# Altium schematic symbol library GBA.SchLib: 50 symbols (part 2 of 2)
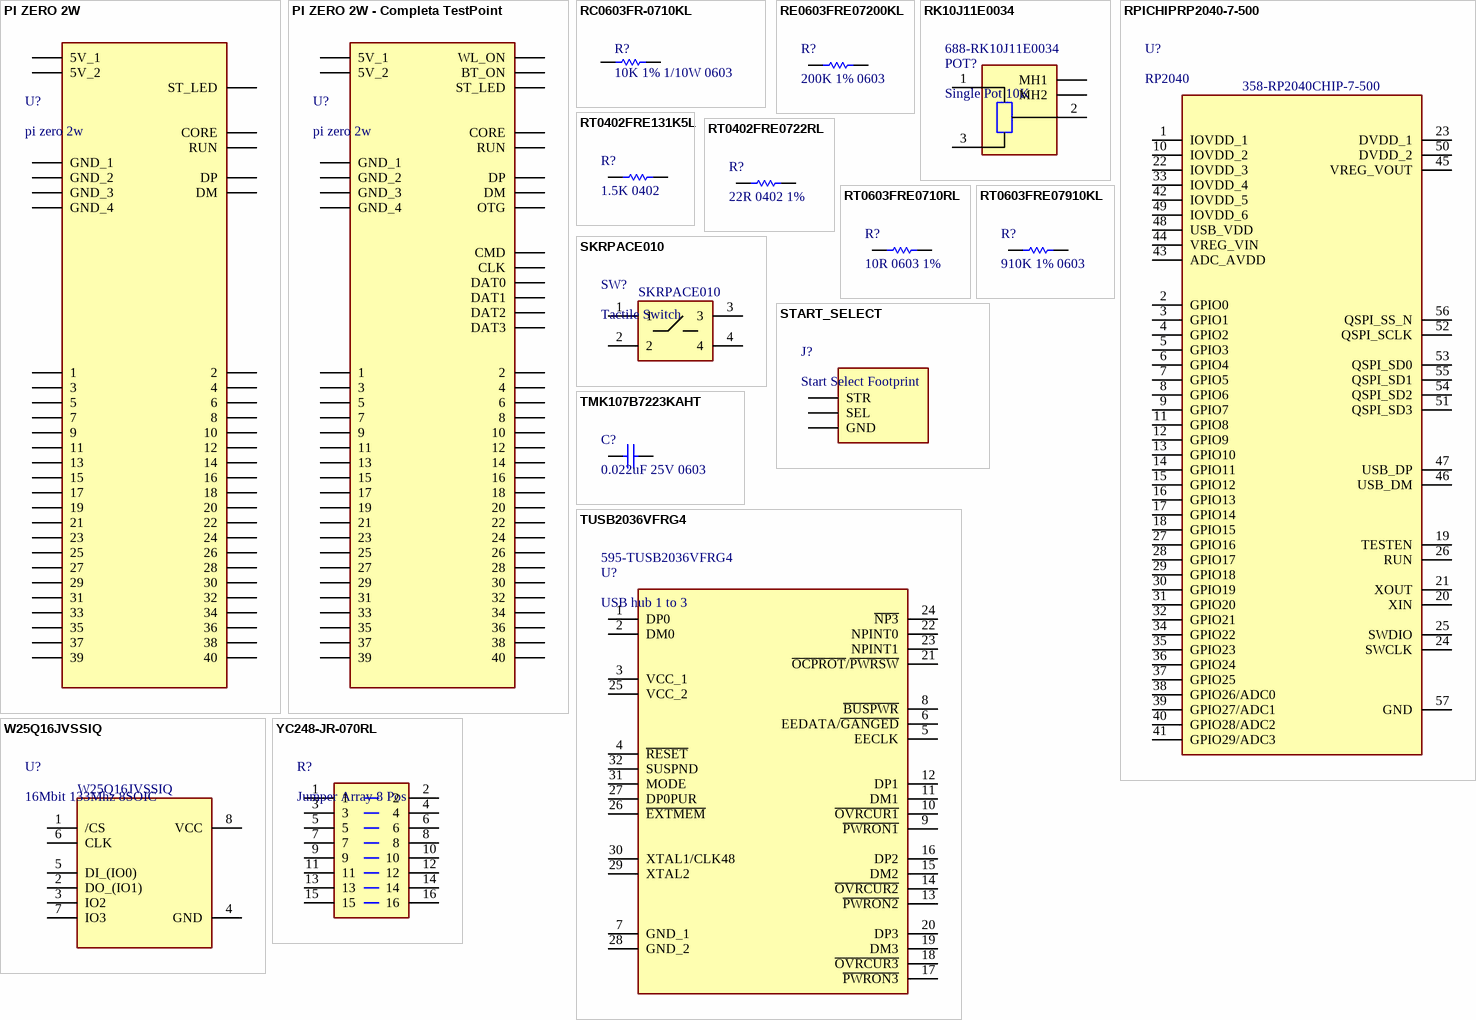
[diagram p2: symbols PI ZERO 2W to YC248-JR-070RL]

## SKRPACE010
designator SW?, comment Tactile Switch  Supplier Part Number 1: SKRPACE010
Tactile Switches 4.2x3.2x2.5mm 260gf; Manufacturer: Alps Electric; Operating Force: 2.55N; Throw Configuration: SPST; Max Voltage Rating (DC): 16V; Max Current Rating: 50mA; Electrical Life: 50000Cycles; Contact Resistance: 500mR; Actuator Length: 0.7mm; Supplier 1: Avnet; Manufacturer Part Number: SKRPACE010; RoHS: Yes; Category: Tactile Switches; Pricing 1: 4000=0,05263, 8000=0,05195, 16000=0,05063, 24000=0,04938, 40000=0,04819 (USD); Mount: Surface Mount; Case/Package: SMD/SMT; Color: Clear; Contact Plating: Silver; Min Operating Temperature: -20°C; Max Operating Temperature: 70°C; Termination: J-Bend; Packaging: Tape and Reel; Orientation: Straight; Current Rating: 50mA; Voltage Rating (DC): 16V; Package Quantity: 4000; Length: 4.6mm; Depth: 3.2mm; Radiation Hardening: No; Lead Free: Lead Free; ComponentLink1URL: https://datasheet.ciiva.com/16156/skrp-16156208.pdf?src-supplier=Onlinecomponents.com; ComponentLink1Description: https://datasheet.ciiva.com/16156/skrp-16156208.pdf?src-supplier=Onlinecomponents.com; ComponentLink2URL: https://datasheet.ciiva.com/18145/getdatasheetpartid-652528-18145947.pdf?src-supplier=Verical; ComponentLink2Description: https://datasheet.ciiva.com/18145/getdatasheetpartid-652528-18145947.pdf?src-supplier=Verical
footprint SKRPACE010
pins: 1, 2, 3, 4

## START_SELECT
designator J?, comment Start Select Footprint
Start Select
footprint START SELECT FOOTPRINT
pins: GND, SEL, STR

## TMK107B7223KAHT
designator C?, comment 0.022uF 25V 0603
Cap Ceramic 0.022uF 25V X7R 10% Pad SMD 0603 125C Automotive T/R; Manufacturer: Taiyo Yuden; Manufacturer Part Number: TMK107B7223KAHT; Capacitance: 22nF; Supplier 1: Mouser; RoHS: Yes; Category: Ceramic Capacitors; Stock 1: 9661; Pricing 1: 1=0,10000, 10=0,04700, 50=0,04700, 100=0,03500, 1000=0,02300, 10000=0,02000 (USD); Mount: Surface Mount; Case/Package: 0603; Case Code (Metric): 1608; Case Code (Imperial): 0603; Min Operating Temperature: -55°C; Max Operating Temperature: 125°C; Voltage Rating: 25V; Package Quantity: 4000; Packaging: Tape and Reel; Tolerance: 10%; Voltage Rating (DC): 25V; Dielectric: X7R; Termination: SMD/SMT; Length: 0.063inch; Width: 0.031inch; Height: 0.8mm; Thickness: 0.035inch; Ratings: AEC-Q200; Lead Free: Lead Free; Halogen Free: Halogen Free; RoHS Compliant: Yes; ComponentLink1URL: https://datasheet.ciiva.com/18697/mlcc01-hq-e-18697836.pdf?src-supplier=Digi-Key; ComponentLink1Description: https://datasheet.ciiva.com/18697/mlcc01-hq-e-18697836.pdf?src-supplier=Digi-Key; ComponentLink2URL: https://datasheet.ciiva.com/18697/mlcc01-hq-e-18697834.pdf?src-supplier=Digi-Key; ComponentLink2Description: https://datasheet.ciiva.com/18697/mlcc01-hq-e-18697834.pdf?src-supplier=Digi-Key; ComponentLink3URL: https://datasheet.ciiva.com/18697/mlcc01-hq-e-18697835.pdf?src-supplier=Digi-Key; ComponentLink3Description: https://datasheet.ciiva.com/18697/mlcc01-hq-e-18697835.pdf?src-supplier=Digi-Key; Supplier Part Number 1: 963-TMK107B7223KAHT
footprint C 0603/1608
pins: 1, 2

## TUSB2036VFRG4
designator U?, comment USB hub 1 to 3  Supplier Part Number 1: 595-TUSB2036VFRG4
2/3-port 12-Mbps USB full-speed hub with optional serial EEPROM interface 32-LQFP 0 to 70; Manufacturer: Texas Instruments; Manufacturer Part Number: TUSB2036VFRG4; Data Rate: 12Mbps; Operating Supply Voltage: 3.3V; Operating Supply Current: 40mA; Number of Ports: 3; Number of Transceivers: 4; Supplier 1: Mouser; RoHS: Yes; Category: Interface ICs; Stock 1: 2568; Pricing 1: 1=3,59000, 10=3,22000, 25=3,05000, 50=3,05000, 100=2,64000, 250=2,51000, 500=2,25000, 1000=1,96000, 10000=1,96000 (USD); Case/Package: LQFP; Number of Pins: 32; Weight: 0.006148oz; Min Operating Temperature: 0°C; Max Operating Temperature: 70°C; Packaging: Tape and Reel; Package Quantity: 1000; Series: -; Length: 7mm; Width: 7mm; Height: 1.4mm; Radiation Hardening: No; Lead Free: Lead Free; RoHS Compliant: Yes; ComponentLink1URL: https://datasheet.ciiva.com/4787/slls372e-121892-4787764.pdf?src-supplier=Mouser; ComponentLink1Description: https://datasheet.ciiva.com/4787/slls372e-121892-4787764.pdf?src-supplier=Mouser; ComponentLink2URL: https://datasheet.ciiva.com/1696/tusb2036-1696899.pdf?src-supplier=Digi-Key; ComponentLink2Description: https://datasheet.ciiva.com/1696/tusb2036-1696899.pdf?src-supplier=Digi-Key
footprint QFP80P900X900X160-32N (Footprint not found)
pins: 1 DP0, 2 DM0, 3 VCC_1, 4 ~{RESET}, 5 EECLK, 6 EEDATA/~{GANGED}, 7 GND_1, 8 ~{BUSPWR}, 9 ~{PWRON1}, 10 ~{OVRCUR1}, 11 DM1, 12 DP1, 13 ~{PWRON2}, 14 ~{OVRCUR2}, 15 DM2, 16 DP2, 17 ~{PWRON3}, 18 ~{OVRCUR3}, 19 DM3, 20 DP3, 21 ~{OCPROT}/~{PWRSW}, 22 NPINT0, 23 NPINT1, 24 ~{NP3}, 25 VCC_2, 26 ~{EXTMEM}, 27 DP0PUR, 28 GND_2, 29 XTAL2, 30 XTAL1/CLK48, 31 MODE, 32 SUSPND

## W25Q16JVSSIQ
designator U?, comment 16Mbit 133Mhz 8SOIC  Supplier Part Number 1: W25Q16JVSSIQ
ICFLASH16MBIT133MHZ8SOIC; Manufacturer: Winbond; Memory Type: Non-Volatile,FLASH; Memory Size: 16Mb; Supplier 1: Arrow Electronics; Manufacturer Part Number: W25Q16JVSSIQ; RoHS: Yes; Category: Flash; Stock 1: 7759; Pricing 1: 1=0,65330, 10=0,63190, 25=0,59860, 50=0,59510, 100=0,52980, 250=0,52330, 500=0,51540, 1000=0,50070, 5000=0,44520 (USD); Mount: Surface Mount; Case/Package: SOIC; Min Operating Temperature: -40°C; Max Operating Temperature: 85°C; Packaging: Rail/Tube; Frequency: 133MHz; RoHS Compliant: Yes; ComponentLink1URL: http://www.winbond.com/resource-files/w25q16jv%20spi%20revg%2003222018%20plus.pdf?src-supplier=Digi-Key; ComponentLink1Description: http://www.winbond.com/resource-files/w25q16jv%20spi%20revg%2003222018%20plus.pdf?src-supplier=Digi-Key
footprint SOIC127P790X216-8N
pins: 1 /CS, 2 DO_(IO1), 3 IO2, 4 GND, 5 DI_(IO0), 6 CLK, 7 IO3, 8 VCC

## YC248-JR-070RL
designator R?, comment Jumper Array 8 Pos
Res Thick Film Array 0 Ohm ISOL Epoxy 16-Pin 1606(8 X 0602) Convex SMD Automotive T/R; Manufacturer: Yageo; Manufacturer Part Number: YC248-JR-070RL; Number of Terminals/Pins: 16; Resistance: 0R; Number of Resistors: 8; Power Rating: 63mW; Voltage Rating: 50V; Tolerance: 5%; Circuit Type: Isolated; Power Per Element: 62.5mW; Temperature Coefficient: 200ppm/°C; Supplier 1: Mouser; RoHS: Yes; Category: Resistor Arrays; Stock 1: 17810; Pricing 1: 1=0,32000, 10=0,22600, 50=0,22600, 100=0,08900, 1000=0,04400, 5000=0,03300, 10000=0,03300 (USD); Mount: Surface Mount; Case/Package: 0616; Number of Pins: 16; Case Code (Metric): 1640; Case Code (Imperial): 0616; Min Operating Temperature: -55°C; Max Operating Temperature: 155°C; Number of Elements: 8; Package Quantity: 1; Packaging: Tape and Reel; Termination: Convex; Number of Contacts: 16; Number of Circuits: 8; Series: YC248; Resistance Tolerance: 5%; Technology: THICK FILM; Length: 0.157inch; Width: 0.063inch; Height: 0.022inch; Terminal Pitch: 0.5mm; Depth: 1.6mm; Radiation Hardening: No; REACH SVHC: Unknown; Military Standard: Not; Lead Free: Lead Free; RoHS Compliant: Yes; ComponentLink1URL: https://datasheet.ciiva.com/8018/443139-8018027.pdf?src-supplier=Element14; ComponentLink1Description: https://datasheet.ciiva.com/8018/443139-8018027.pdf?src-supplier=Element14; ComponentLink2URL: https://datasheet.ciiva.com/2689/pyu-r-marking-2-2689439.pdf?src-supplier=Digi-Key; ComponentLink2Description: https://datasheet.ciiva.com/2689/pyu-r-marking-2-2689439.pdf?src-supplier=Digi-Key; ComponentLink3URL: https://datasheet.ciiva.com/8320/pyu-yc248-51-rohs-l-2-8320251.pdf?src-supplier=Avnet; ComponentLink3Description: https://datasheet.ciiva.com/8320/pyu-yc248-51-rohs-l-2-8320251.pdf?src-supplier=Avnet; ComponentLink4URL: https://datasheet.ciiva.com/2689/pyu-r-marking-2-2689440.pdf?src-supplier=Digi-Key; ComponentLink4Description: https://datasheet.ciiva.com/2689/pyu-r-marking-2-2689440.pdf?src-supplier=Digi-Key; ComponentLink5URL: https://datasheet.ciiva.com/2689/pyu-r-marking-2-2689441.pdf?src-supplier=Digi-Key; ComponentLink5Description: https://datasheet.ciiva.com/2689/pyu-r-marking-2-2689441.pdf?src-supplier=Digi-Key; ComponentLink6URL: https://datasheet.ciiva.com/8018/443139-8018025.pdf?src-supplier=Element14; ComponentLink6Description: https://datasheet.ciiva.com/8018/443139-8018025.pdf?src-supplier=Element14; Supplier Part Number 1: 603-YC248-JR-070RL
footprint YC248JR0710KL
pins: 1, 2, 3, 4, 5, 6, 7, 8, 9, 10, 11, 12, 13, 14, 15, 16